# Altium footprint library Edge Connector.PcbLib: 2 footprints
Each footprint in its own frame and in the unit in brackets; x right, y up, seen from the top. Pads: shape width x height; smd on the part's side, far side on the other; paste and mask are expansions set on the pad; w line width, h text height; cw(c..) or ccw(c..) is an arc to the next point about the centre after c.
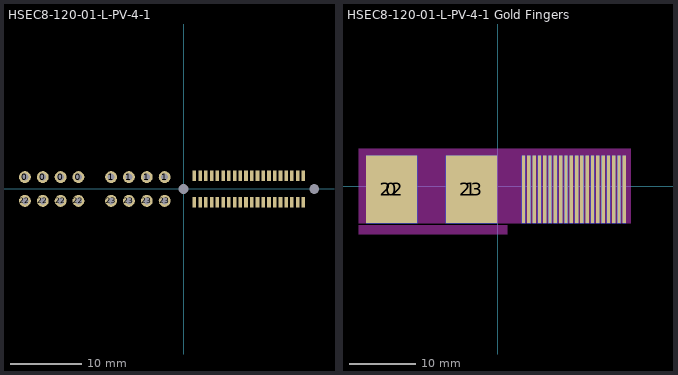
[diagram p0: the footprints below, top view; thin cyan lines are the x and y axes]

## HSEC8-120-01-L-PV-4-1 [mil]
pads (58):
  round 65 hole 38: 0(-871,65.5) 0(-773,65.5) 0(-675,65.5) 0(-577,65.5) 1(-398,65.5) 1(-300,65.5) 1(-202,65.5) 1(-104,65.5) 22(-871,-65.5) 22(-773,-65.5) 22(-675,-65.5) 22(-577,-65.5) 23(-398,-65.5) 23(-300,-65.5) 23(-202,-65.5) 23(-104,-65.5)
  rect 19.68x59.06 smd: 2(59.5,72.75) 3(91,72.75) 4(122.5,72.75) 5(154,72.75) 6(185.5,72.75) 7(217,72.75) 8(248.5,73) 9(280,72.2) 10(311.5,72.45) 11(343,72.75) 12(374.5,72.75) 13(406,72.75) 14(437.5,72.75) 15(469,72.75) 16(500.5,72.75) 17(532,73) 18(563.5,72.2) 19(595,72.45) 20(626.5,72.75) 21(658,72.75) 24(59.5,-72.75) 25(91,-72.75) 26(122.5,-72.75) 27(154,-72.75) 28(185.5,-72.75) 29(217,-72.75) 30(248.5,-72.5) 31(280,-73.3) 32(311.5,-73.05) 33(343,-72.75) 34(374.5,-72.75) 35(406,-72.75) 36(437.5,-72.75) 37(469,-72.75) 38(500.5,-72.75) 39(532,-72.5) 40(563.5,-73.3) 41(595,-73.05) 42(626.5,-72.75) 43(658,-72.75)
  round 0 hole 53.15 unplated: ""(0,0) ""(717,0)
3D body "HSEC8-120-01-L-PV-4-1.stp": height 596.73, standoff -94.61, extent -972.11,-157.48 764.11,157.48

## HSEC8-120-01-L-PV-4-1 Gold Fingers [mil]
pads (44):
  rect 303x400 smd paste-400: 0(-629,-17.25) 1(-156,-17.25)
  rect 19.68x400 smd paste-400: 2(154.5,-17.25) 3(186,-17.25) 4(217.5,-17.25) 5(249,-17.25) 6(280.5,-17.25) 7(312,-17.25) 8(343.5,-17.25) 9(375,-17.25) 10(406.5,-17.25) 11(438,-17.25) 12(469.5,-17.25) 13(501,-17.25) 14(532.5,-17.25) 15(564,-17.25) 16(595.5,-17.25) 17(627,-17.25) 18(658.5,-17.25) 19(690,-17.25) 20(721.5,-17.25) 21(753,-17.25)
  rect 303x400 smd far side paste-400: 22(-629,-17.25) 23(-156,-17.25)
  rect 19.68x400 smd far side paste-400: 24(154.5,-17.25) 25(186,-17.25) 26(217.5,-17.25) 27(249,-17.25) 28(280.5,-17.25) 29(312,-17.25) 30(343.5,-17.25) 31(375,-17.25) 32(406.5,-17.25) 33(438,-17.25) 34(469.5,-17.25) 35(501,-17.25) 36(532.5,-17.25) 37(564,-17.25) 38(595.5,-17.25) 39(627,-17.25) 40(658.5,-17.25) 41(690,-17.25) 42(721.5,-17.25) 43(753,-17.25)
Top Solder:
  rectangle: -822.5,-222.5 792.5,222.5
Bottom Solder:
  rectangle: -822.5,-222.5 792.5,222.5
  region: -815,255
Keep-Out Layer:
  rectangle: -825,-285 60,-230
  rectangle: -825,-220 792.61,225
  region: -820,220